# Altium footprint library ti.PcbLib: 2 footprints
Each footprint in its own frame and in the unit in brackets; x right, y up, seen from the top. Pads: shape width x height; smd on the part's side, far side on the other; paste and mask are expansions set on the pad; w line width, h text height; cw(c..) or ccw(c..) is an arc to the next point about the centre after c.
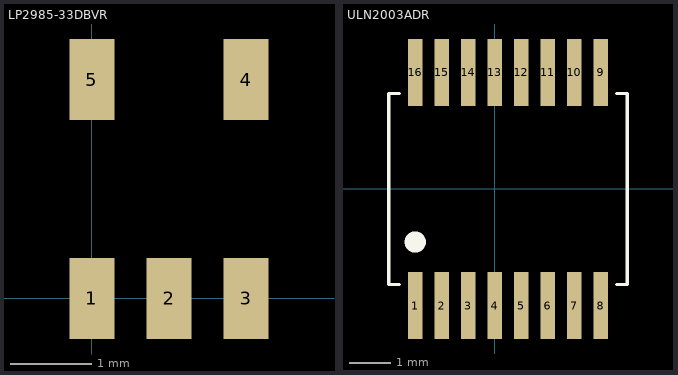
[diagram p0: the footprints below, top view; thin cyan lines are the x and y axes]

## LP2985-33DBVR [mm] "Linear Regulator 3.3V"
pads (5):
  rect 0.55x1 smd: 1(0,0) 2(0.95,0) 3(1.9,0) 4(1.9,2.7) 5(0,2.7)

## ULN2003ADR [mm] "Plastic Small Outline, 16 Pin"
height 1.2
pads (16):
  rect 0.35x1.6 smd mask+0.07: 1(-1.905,-2.794) 2(-1.27,-2.794) 3(-0.635,-2.794) 4(0,-2.794) 5(0.635,-2.794) 6(1.27,-2.794) 7(1.905,-2.794) 8(2.54,-2.794) 9(2.54,2.794) 10(1.905,2.794) 11(1.27,2.794) 12(0.635,2.794) 13(0,2.794) 14(-0.635,2.794) 15(-1.27,2.794) 16(-1.905,2.794)
Top Overlay:
  circle w0.254: c-1.905,-1.27 r0.127
  lines w0.076: -2.286,-2.286 -2.54,-2.286 -2.54,2.286 -2.286,2.286 ; 2.921,-2.286 3.175,-2.286 3.175,2.286 2.921,2.286